# Altium schematic symbol library ZML166N32A.SchLib: 1 symbol
Pins are listed as number, name and electrical type; pins without a type are passive.

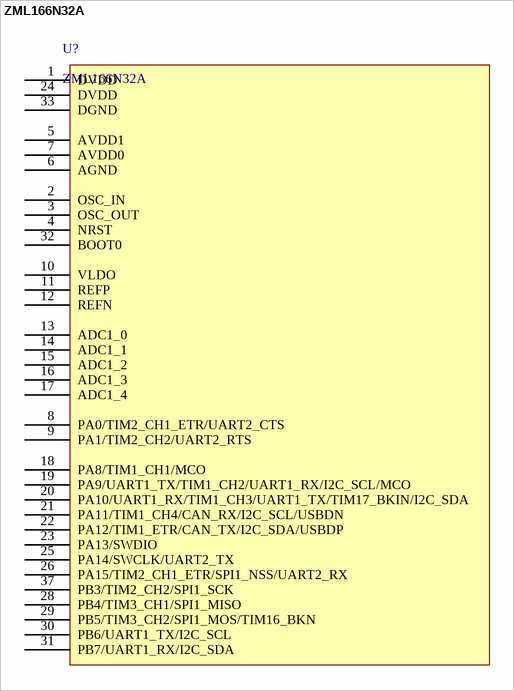
[diagram p0: symbol ZML166N32A]

## ZML166N32A
designator U?
pins: 1 DVDD, 2 OSC_IN, 3 OSC_OUT, 4 NRST, 5 AVDD1, 6 AGND, 7 AVDD0, 8 PA0/TIM2_CH1_ETR/UART2_CTS, 9 PA1/TIM2_CH2/UART2_RTS, 10 VLDO, 11 REFP, 12 REFN, 13 ADC1_0, 14 ADC1_1, 15 ADC1_2, 16 ADC1_3, 17 ADC1_4, 18 PA8/TIM1_CH1/MCO, 19 PA9/UART1_TX/TIM1_CH2/UART1_RX/I2C_SCL/MCO, 20 PA10/UART1_RX/TIM1_CH3/UART1_TX/TIM17_BKIN/I2C_SDA, 21 PA11/TIM1_CH4/CAN_RX/I2C_SCL/USBDN, 22 PA12/TIM1_ETR/CAN_TX/I2C_SDA/USBDP, 23 PA13/SWDIO, 24 DVDD, 25 PA14/SWCLK/UART2_TX, 26 PA15/TIM2_CH1_ETR/SPI1_NSS/UART2_RX, 28 PB4/TIM3_CH1/SPI1_MISO, 29 PB5/TIM3_CH2/SPI1_MOS/TIM16_BKN, 30 PB6/UART1_TX/I2C_SCL, 31 PB7/UART1_RX/I2C_SDA, 32 BOOT0, 33 DGND, 37 PB3/TIM2_CH2/SPI1_SCK